# EAGLE library part RELAY-HK4100F-DC5V (library Senser)
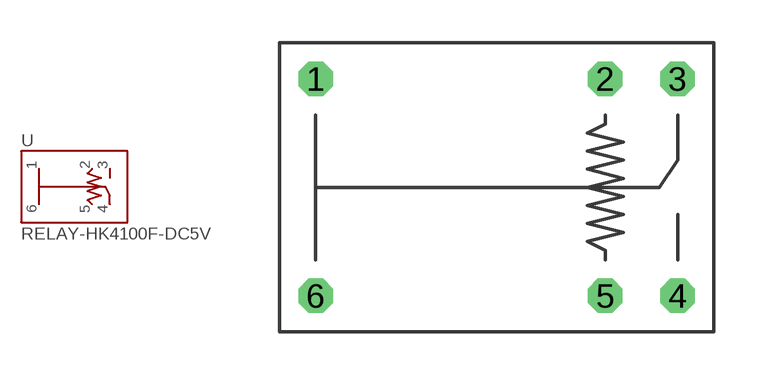
[diagram p1: symbol with the pads of RELAY-HK4100F-DC5V; footprint RELAY-HK4100F-DC5V]

Designator prefix -

## RELAY-HK4100F-DC5V  [RELAY-HK4100F-DC5V]
1  1
2  2
3  3
4  4
5  5
6  6

## Footprint RELAY-HK4100F-DC5V (pad centres in mm)
drill 0.7 octagon: 1 -6.35,3.81; 2 3.81,3.81; 3 6.35,3.81; 4 6.35,-3.81; 5 3.81,-3.81; 6 -6.35,-3.81